# Altium footprint library TF_WE-LAN_24.PcbLib: 1 footprints
Each footprint in its own frame and in the unit in brackets; x right, y up, seen from the top. Pads: shape width x height; smd on the part's side, far side on the other; paste and mask are expansions set on the pad; w line width, h text height; cw(c..) or ccw(c..) is an arc to the next point about the centre after c.
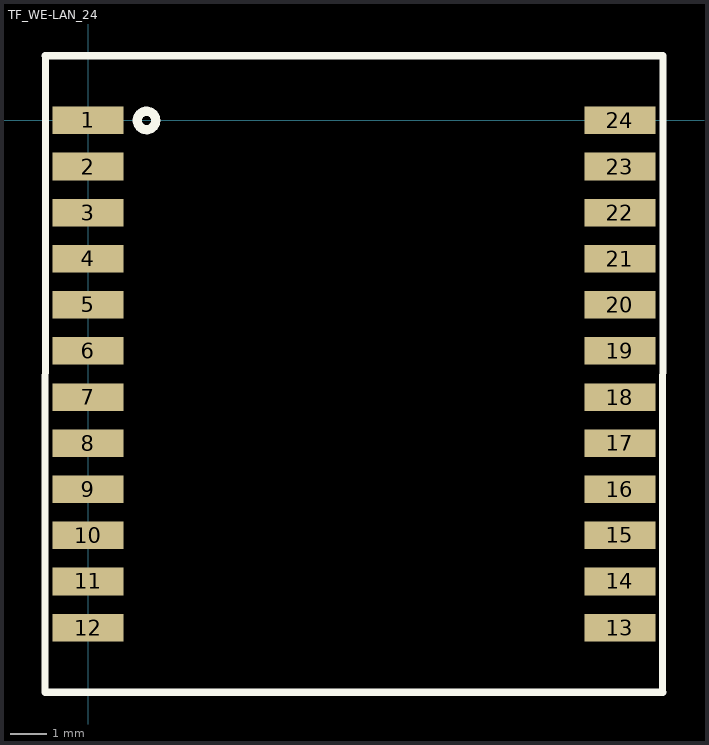
[diagram p0: the footprint, top view; thin cyan lines are the x and y axes]

## TF_WE-LAN_24 [mm] "WE-LAN 24 footprint"
pads (24):
  rect 1.95x0.76 smd: 1(0,0) 2(0,-1.27) 3(0,-2.54) 4(0,-3.81) 5(0,-5.08) 6(0,-6.35) 7(0,-7.62) 8(0,-8.89) 9(0,-10.16) 10(0,-11.43) 11(0,-12.7) 12(0,-13.97) 13(14.65,-13.97) 14(14.65,-12.7) 15(14.65,-11.43) 16(14.65,-10.16) 17(14.65,-8.89) 18(14.65,-7.62) 19(14.65,-6.35) 20(14.65,-5.08) 21(14.65,-3.81) 22(14.65,-2.54) 23(14.65,-1.27) 24(14.65,0)
Top Overlay:
  circle w0.254: c1.61,0 r0.254
  lines w0.2: -1.185,-15.735 -1.175,1.765 ; -1.184,-15.75 15.834,-15.75 ; -1.184,1.78 15.834,1.78 ; 15.825,-15.735 15.835,1.765